# Altium footprint library ADXL335.PcbLib: 1 footprints
Each footprint in its own frame and in the unit in brackets; x right, y up, seen from the top. Pads: shape width x height; smd on the part's side, far side on the other; paste and mask are expansions set on the pad; w line width, h text height; cw(c..) or ccw(c..) is an arc to the next point about the centre after c.
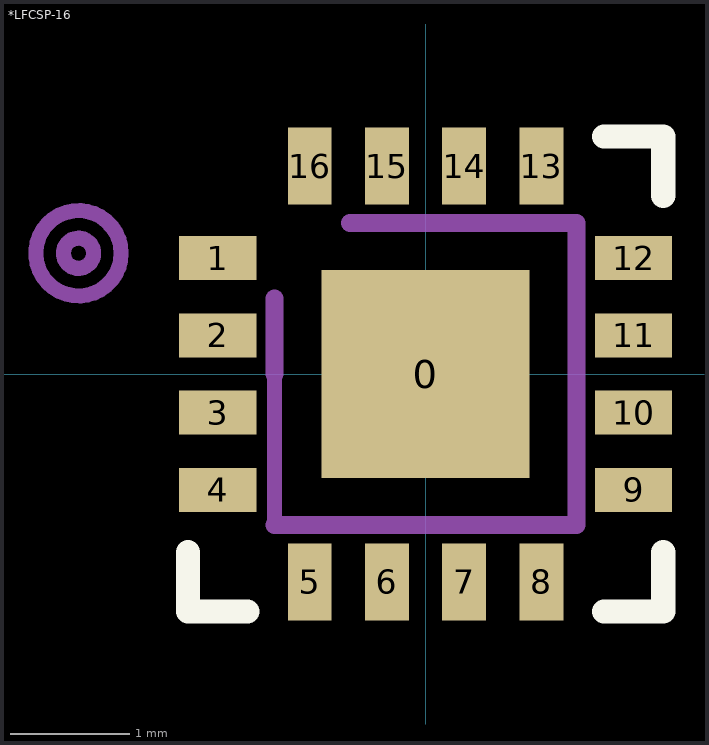
[diagram p0: the footprint, top view; thin cyan lines are the x and y axes]

## *LFCSP-16 [mm]
pads (17):
  rect 1.75x1.75 smd: 0(0,0)
  rect 0.65x0.37 smd: 1(-1.75,0.975) 2(-1.75,0.325) 3(-1.75,-0.325) 4(-1.75,-0.975) 9(1.75,-0.975) 10(1.75,-0.325) 11(1.75,0.325) 12(1.75,0.975)
  rect 0.37x0.65 smd: 5(-0.975,-1.75) 6(-0.325,-1.75) 7(0.325,-1.75) 8(0.975,-1.75) 13(0.975,1.75) 14(0.325,1.75) 15(-0.325,1.75) 16(-0.975,1.75)
Top Overlay:
  lines w0.203: -2,-1.5 -2,-2 -1.5,-2 ; 1.5,-2 2,-2 2,-1.5 ; 1.5,2 2,2 2,1.5
Top Paste:
  region: -0.25,0.25 0.25,0.25 0.25,-0.25 -0.25,-0.25
Mechanical 13:
  circle w0.127: c-2.921,1.016 r0.127
  circle w0.127: c-2.921,1.016 r0.359
  circle w0.127: c-2.921,1.016 r0.127
  circle w0.127: c-2.921,1.016 r0.359
  lines w0.127: -1.27,-1.27 -1.27,0 -1.27,-1.27 ; 0,1.27 1.27,1.27 0,1.27
  lines w0.152: -1.27,-1.27 1.27,-1.27 1.27,1.27 -0.635,1.27 ; -1.27,0 -1.27,0.635